# EAGLE library part HMC5843 (library honeywell)
3-Axis Digital Compass
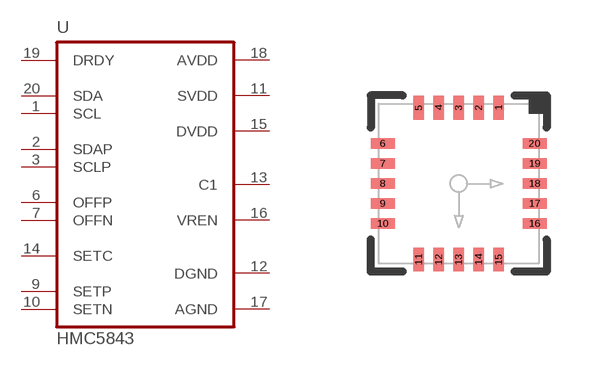
[diagram p1: symbol with the pads of LPCC20; footprint LPCC20]

Designator prefix U

## HMC5843  [LPCC20]
1  SCL
2  SDAP  pas
3  SCLP  pas
6  OFFP  pas
7  OFFN  pas
9  SETP  pas
10  SETN  pas
11  SVDD  pas
12  DGND  pwr
13  C1  pas
14  SETC  pas
15  DVDD  pwr
16  VREN  in
17  AGND  pwr
18  AVDD  pwr
19  DRDY  out
20  SDA

## Footprint LPCC20 (pad centres in mm)
LPCC 20 body 4x4mm
smd 0.26 x 0.6: 1 1,1.9; 2 0.5,1.9; 3 0,1.9; 4 -0.5,1.9; 5 -1,1.9; 11 -1,-1.9; 12 -0.5,-1.9; 13 0,-1.9; 14 0.5,-1.9; 15 1,-1.9
smd 0.6 x 0.26: 6 -1.9,1; 7 -1.9,0.5; 8 -1.9,0; 9 -1.9,-0.5; 10 -1.9,-1; 16 1.9,-1; 17 1.9,-0.5; 18 1.9,0; 19 1.9,0.5; 20 1.9,1